# EAGLE library part TDA7439DS (library st-microelectronics)
The TDA7439DS is a volume tone (bass, middle and treble) balance (Left/Right) processor for quality audio applications in car-radio and Hi-Fi systems. Selectable input gain is provided. Control of all the functions is accomplished by serial bus. The AC signal setting is obtained by resistor networks and switches combined with operational amplifiers. Thanks to the used BIPOLAR/CMOSTechnology, Low Distortion, Low Noise and DC stepping are obtained
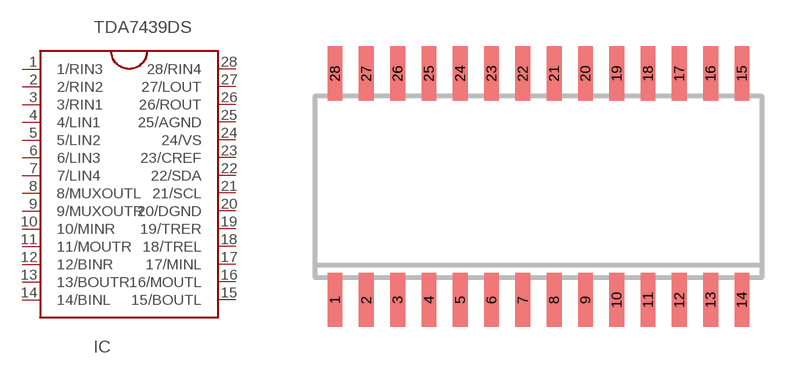
[diagram p49: symbol with the pads of SO28; footprint SO28]

Designator prefix IC

## TDA7439DS  [SO28]
1  1/RIN3  in
2  2/RIN2  in
3  3/RIN1  in
4  4/LIN1  in
5  5/LIN2  in
6  6/LIN3  in
7  7/LIN4  in
8  8/MUXOUTL  out
9  9/MUXOUTR  out
10  10/MINR
11  11/MOUTR  out
12  12/BINR
13  13/BOUTR  out
14  14/BINL
15  15/BOUTL  out
16  16/MOUTL  out
17  17/MINL
18  18/TREL
19  19/TRER
20  20/DGND  pwr
21  21/SCL
22  22/SDA
23  23/CREF
24  24/VS  pwr
25  25/AGND  pwr
26  26/ROUT  out
27  27/LOUT  out
28  28/RIN4  in

## Footprint SO28 (pad centres in mm)
SMALL OUTLINE INTEGRATED CIRCUIT wide body 7.5 mm/JEDEC MO-119AB
smd 0.6 x 2.2: 1 -8.255,-4.6; 2 -6.985,-4.6; 3 -5.715,-4.6; 4 -4.445,-4.6; 5 -3.175,-4.6; 6 -1.905,-4.6; 7 -0.635,-4.6; 8 0.635,-4.6; 9 1.905,-4.6; 10 3.175,-4.6; 11 4.445,-4.6; 12 5.715,-4.6; 13 6.985,-4.6; 14 8.255,-4.6; 15 8.255,4.6; 16 6.985,4.6; 17 5.715,4.6; 18 4.445,4.6; 19 3.175,4.6; 20 1.905,4.6; 21 0.635,4.6; 22 -0.635,4.6; 23 -1.905,4.6; 24 -3.175,4.6; 25 -4.445,4.6; 26 -5.715,4.6; 27 -6.985,4.6; 28 -8.255,4.6